# Altium footprint library tagconnect.PcbLib: 1 footprints
Each footprint in its own frame and in the unit in brackets; x right, y up, seen from the top. Pads: shape width x height; smd on the part's side, far side on the other; paste and mask are expansions set on the pad; w line width, h text height; cw(c..) or ccw(c..) is an arc to the next point about the centre after c.
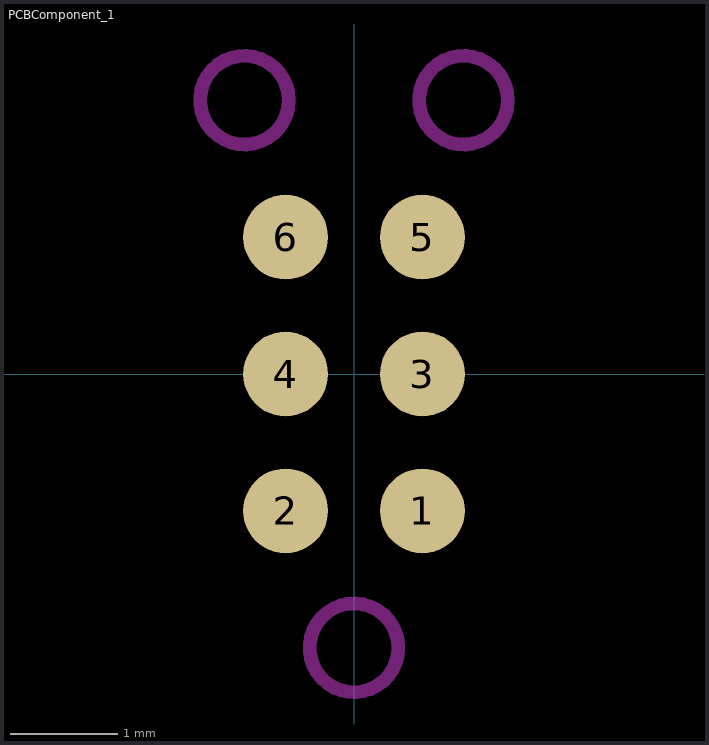
[diagram p0: the footprint, top view; thin cyan lines are the x and y axes]

## PCBComponent_1 [mil]
pads (6):
  round 30.98 smd: 1(25,-50) 2(-25,-50) 3(25,0) 4(-25,0) 5(25,50) 6(-25,50)
Keep-Out Layer:
  circle w5: c40,100 r16.21
  circle w5: c-40,100 r16.21
  circle w5: c0,-100 r16.21